# Altium footprint library 6-UDFN_EP.PcbLib: 1 footprints
Each footprint in its own frame and in the unit in brackets; x right, y up, seen from the top. Pads: shape width x height; smd on the part's side, far side on the other; paste and mask are expansions set on the pad; w line width, h text height; cw(c..) or ccw(c..) is an arc to the next point about the centre after c.
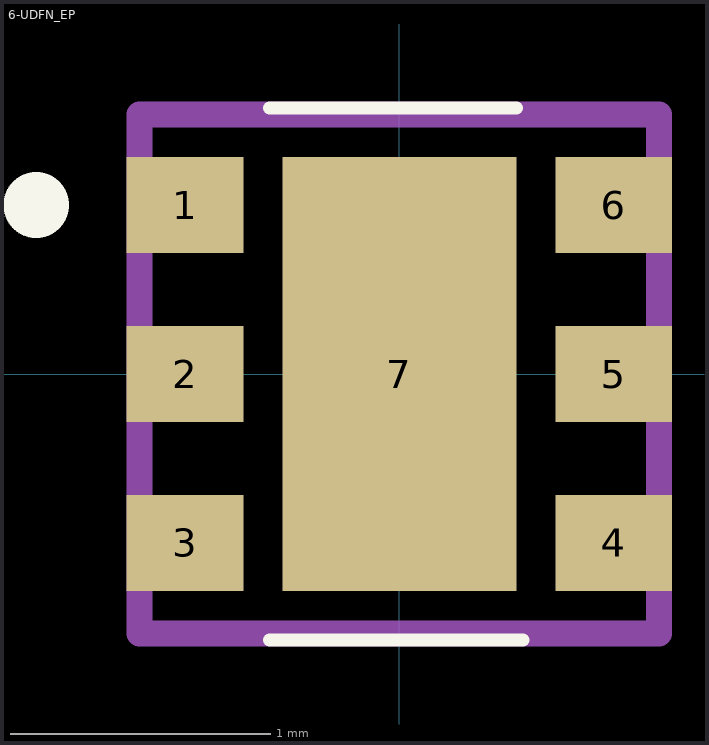
[diagram p0: the footprint, top view; thin cyan lines are the x and y axes]

## 6-UDFN_EP [mm]
pads (7):
  rect 0.45x0.37 smd mask+0.051: 1(-0.825,0.65) 2(-0.825,0) 3(-0.825,-0.65) 4(0.825,-0.65) 5(0.825,0) 6(0.825,0.65)
  rect 0.9x1.67 smd mask+0.051: 7(0,0)
Top Overlay:
  circle w0.254: c-1.4,0.65 r0
  lines w0.05: -0.5,-1.025 0.475,-1.025 ; -0.5,1.025 0.45,1.025
Mechanical 13:
  lines w0.1: -1,-1 1,-1 1,1 -1,1 -1,-1
Mechanical 15:
  lines w0.1: -0.25,0 0,0 ; 0,-0.25 0,0 ; 0,0.25 0,0 ; 0.25,0 0,0
3D body "6-UDFN_EP.STEP": height 0.64, standoff 0.01, extent -1,-1 1,1